# Altium integrated library IDC.IntLib: 1 symbol
Pins are listed as number, name and electrical type; pins without a type are passive.

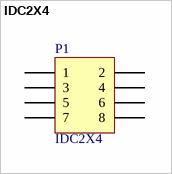
[diagram p0: symbol IDC2X4]

## IDC2X4
designator P1
Header, 4-Pin, Dual row; LatestRevisionDate: 17-Jul-2002; LatestRevisionNote: Re-released for DXP Platform.; Publisher: Altium Limited
signal-integrity model Connector
footprint IDC2X4 (IDC Connector 2x4)
pins: 1, 2, 3, 4, 5, 6, 7, 8